# Altium schematic symbol library TRIAC.SchLib: 1 symbol
Pins are listed as number, name and electrical type; pins without a type are passive.

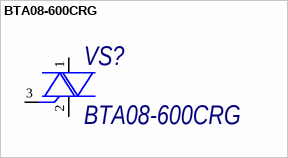
[diagram p0: symbol BTA08-600CRG]

## BTA08-600CRG
designator VS?
Симистор; ComponentDescription: =ComponentType+', '+Comment+', '+Package; ComponentType: Симистор
footprint TO-220
pins: 1, 2, 3